# EAGLE library part 435154020816 (library WS-TASV)
WS-TASV SMT Tact Switch 3.9 x 2.9 mm General Information Operating Temperature -40 °C up to +125 °C Washable No Electrical Properties IR 50 mA VR 12 V (DC) Contact Resistance Initial 100 mΩ RISO 100 MΩ Withstanding Voltage 250 V (AC) Material Properties Actuator Material LCP Actuator Flammability Rating UL94 V-0 Frame Material PA46 Frame Flammability Rating UL94 HB Contact Plating Silver Terminal Plating Silver Mechanical Properties Operation Force 160 gf; 250 gf <https://www.we-online.com/components/media/o897560v209%20MODEL-WS-TASV-4351x40xx8xx.jpg> Details see: www.we-online.com/en/components/products/WS-TASV-TACT-SWITCH-3-9-2-9MM <www.we-online.com/catalog/WS-TASV-TACT-SWITCH-3-9-2-9MM/?utm_source=eagle_model&utm_medium=description_link&utm_campaign=eisos_eagle> Updated by Ella 2026-05-11 2026(C) Würth Elektronik
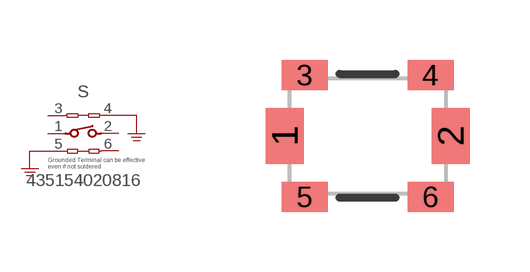
[diagram p13: symbol with the pads of 435154020816; footprint 435154020816]

Designator prefix S

## 435154020816 (ACTUATOR-COLOR: White; DATASHEET-URL: https://www.we-online.com/redexpert/spec/435154020816?ae; HEIGHT: 2mm; LENGTH: 3.9mm; MOUNT: SMT; OPERATION-FORCE: 160g; PART-NUMBER: 435154020816; VALUE: 435154020816; WASHABLE: No; WIDTH: 2.9mm)  [435154020816]
1  1  pas
2  2  pas
3  3  pas
4  4  pas
5  5  pas
6  6  pas

## Footprint 435154020816 (pad centres in mm)
smd 0.95 x 1.4: 1 -2.075,0; 2 2.075,0
smd 1.15 x 0.75: 3 -1.575,1.525; 4 1.575,1.525; 5 -1.575,-1.525; 6 1.575,-1.525